# EAGLE library part MAX5802BAUB+ (library open_covg)
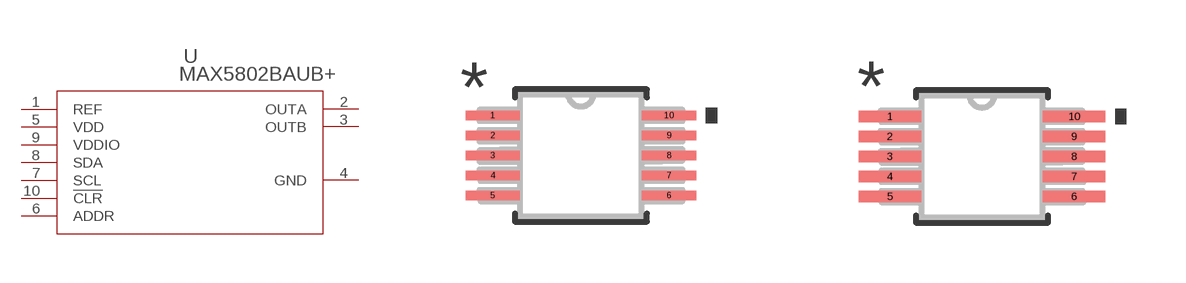
[diagram p17: symbol with the pads of 21-0061L_MXM; footprints 21-0061L_MXM, 21-0061L_MXM-M]

Designator prefix U

## MAX5802BAUB+ (MANUFACTURER_PART_NUMBER: MAX5802BAUB+; SOURCELIBRARY: Maxim_2019-02-08_1; VENDOR: Maxim Integrated Products)  [21-0061L_MXM]
1  REF
2  OUTA  out
3  OUTB  out
4  GND  pwr
5  VDD  pwr
6  ADDR  pas
7  SCL  in
8  SDA
9  VDDIO  pwr
10  !CLR  in

## MAX5802BAUB+21-0061L_MXM-M (MANUFACTURER_PART_NUMBER: MAX5802BAUB+; SOURCELIBRARY: Maxim_2019-02-08_1; VENDOR: Maxim Integrated Products)  [21-0061L_MXM-M]
Pads as for 21-0061L_MXM

## MAX5802BAUB+21-0061L_MXM-L (MANUFACTURER_PART_NUMBER: MAX5802BAUB+; SOURCELIBRARY: Maxim_2019-02-08_1; VENDOR: Maxim Integrated Products)  [21-0061L_MXM-L]
Pads as for 21-0061L_MXM

## Footprint 21-0061L_MXM (pad centres in mm)
smd 1.359 x 0.229: 1 -2.203,1; 2 -2.203,0.5; 3 -2.203,0; 4 -2.203,-0.5; 5 -2.203,-1; 6 2.203,-1; 7 2.203,-0.5; 8 2.203,0; 9 2.203,0.5; 10 2.203,1

## Footprint 21-0061L_MXM-M (pad centres in mm)
smd 1.562 x 0.279: 1 -2.305,1; 2 -2.305,0.5; 3 -2.305,0; 4 -2.305,-0.5; 5 -2.305,-1; 6 2.305,-1; 7 2.305,-0.5; 8 2.305,0; 9 2.305,0.5; 10 2.305,1

## Footprint 21-0061L_MXM-L (pad centres in mm)
smd 1.118 x 0.178: 1 -2.121,1; 2 -2.121,0.5; 3 -2.121,0; 4 -2.121,-0.5; 5 -2.121,-1; 6 2.121,-1; 7 2.121,-0.5; 8 2.121,0; 9 2.121,0.5; 10 2.121,1